# Altium footprint library TH resistors.PcbLib: 92 footprints (part 2 of 6)
Each footprint in its own frame and in the unit in brackets; x right, y up, seen from the top. Pads: shape width x height; smd on the part's side, far side on the other; paste and mask are expansions set on the pad; w line width, h text height; cw(c..) or ccw(c..) is an arc to the next point about the centre after c.
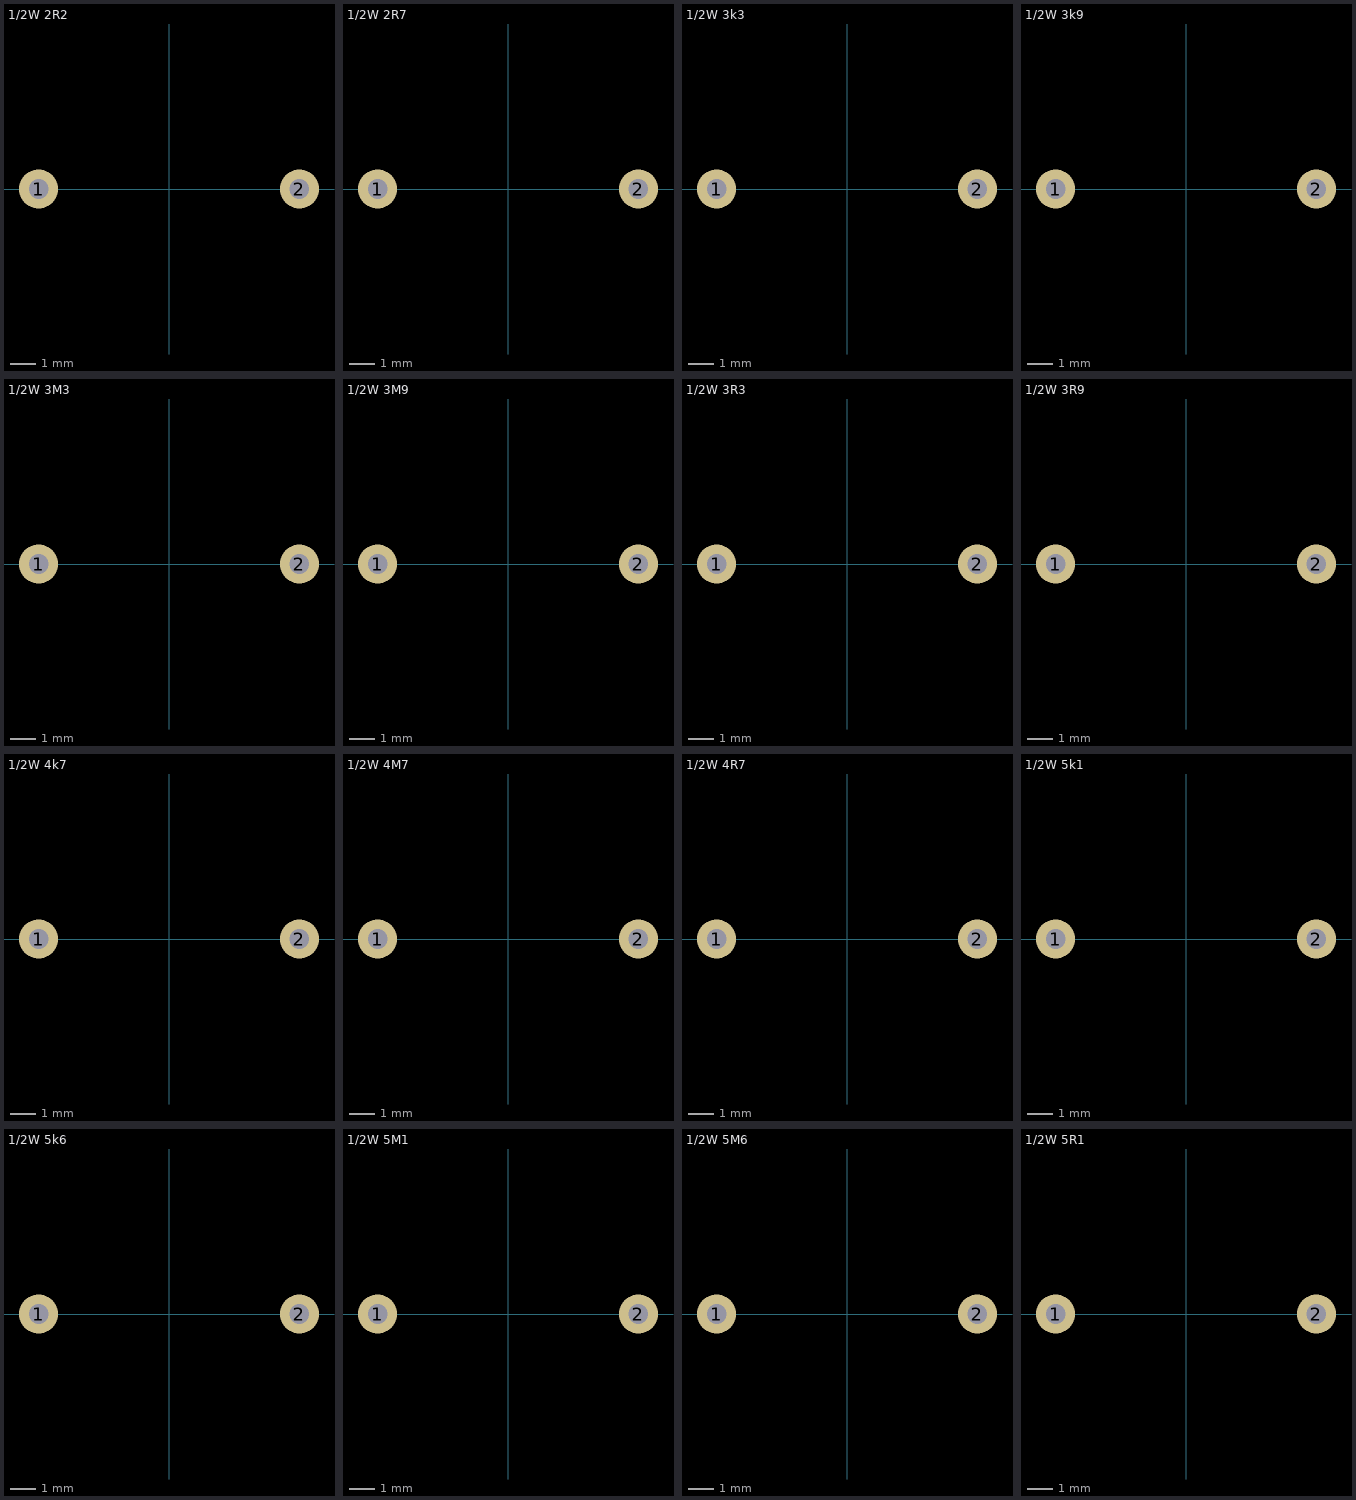
[diagram p1: the footprints below, top view; thin cyan lines are the x and y axes]

## 1/2W 2R2 [mil]
pads (2):
  round 60 hole 30: 1(-200,0) 2(200,0)
3D body "Resistor Axial 0.5W - Pitch 10.2mm (401.57mil) - 2R2.STEP": height 59.06, standoff -206.69, extent -210.63,-59.06 210.63,59.06

## 1/2W 2R7 [mil]
pads (2):
  round 60 hole 30: 1(-200,0) 2(200,0)
3D body "Resistor Axial 0.5W - Pitch 10.2mm (401.57mil) - 2R7.STEP": height 59.06, standoff -206.69, extent -210.63,-59.06 210.63,59.06

## 1/2W 3k3 [mil]
pads (2):
  round 60 hole 30: 1(-200,0) 2(200,0)
3D body "Resistor Axial 0.5W - Pitch 10.2mm (401.57mil) - 3K3.STEP": height 59.06, standoff -206.69, extent -210.63,-59.06 210.63,59.06

## 1/2W 3k9 [mil]
pads (2):
  round 60 hole 30: 1(-200,0) 2(200,0)
3D body "Resistor Axial 0.5W - Pitch 10.2mm (401.57mil) - 3K9.STEP": height 59.06, standoff -206.69, extent -210.63,-59.06 210.63,59.06

## 1/2W 3M3 [mil]
pads (2):
  round 60 hole 30: 1(-200,0) 2(200,0)
3D body "Resistor Axial 0.5W - Pitch 10.2mm (401.57mil) - 3M3.STEP": height 59.06, standoff -206.69, extent -210.63,-59.06 210.63,59.06

## 1/2W 3M9 [mil]
pads (2):
  round 60 hole 30: 1(-200,0) 2(200,0)
3D body "Resistor Axial 0.5W - Pitch 10.2mm (401.57mil) - 3M9.STEP": height 59.06, standoff -206.69, extent -210.63,-59.06 210.63,59.06

## 1/2W 3R3 [mil]
pads (2):
  round 60 hole 30: 1(-200,0) 2(200,0)
3D body "Resistor Axial 0.5W - Pitch 10.2mm (401.57mil) - 3R3.STEP": height 59.06, standoff -206.69, extent -210.63,-59.06 210.63,59.06

## 1/2W 3R9 [mil]
pads (2):
  round 60 hole 30: 1(-200,0) 2(200,0)
3D body "Resistor Axial 0.5W - Pitch 10.2mm (401.57mil) - 3R9.STEP": height 59.06, standoff -206.69, extent -210.63,-59.06 210.63,59.06

## 1/2W 4k7 [mil]
pads (2):
  round 60 hole 30: 1(-200,0) 2(200,0)
3D body "Resistor Axial 0.5W - Pitch 10.2mm (401.57mil) - 4K7.STEP": height 59.06, standoff -206.69, extent -210.63,-59.06 210.63,59.06

## 1/2W 4M7 [mil]
pads (2):
  round 60 hole 30: 1(-200,0) 2(200,0)
3D body "Resistor Axial 0.5W - Pitch 10.2mm (401.57mil) - 4M7.STEP": height 59.06, standoff -206.69, extent -210.63,-59.06 210.63,59.06

## 1/2W 4R7 [mil]
pads (2):
  round 60 hole 30: 1(-200,0) 2(200,0)
3D body "Resistor Axial 0.5W - Pitch 10.2mm (401.57mil) - 4R7.STEP": height 59.06, standoff -206.69, extent -210.63,-59.06 210.63,59.06

## 1/2W 5k1 [mil]
pads (2):
  round 60 hole 30: 1(-200,0) 2(200,0)
3D body "Resistor Axial 0.5W - Pitch 10.2mm (401.57mil) - 5K1.STEP": height 59.06, standoff -206.69, extent -210.63,-59.06 210.63,59.06

## 1/2W 5k6 [mil]
pads (2):
  round 60 hole 30: 1(-200,0) 2(200,0)
3D body "Resistor Axial 0.5W - Pitch 10.2mm (401.57mil) - 5K6.STEP": height 59.06, standoff -206.69, extent -210.63,-59.06 210.63,59.06

## 1/2W 5M1 [mil]
pads (2):
  round 60 hole 30: 1(-200,0) 2(200,0)
3D body "Resistor Axial 0.5W - Pitch 10.2mm (401.57mil) - 5M1.STEP": height 59.06, standoff -206.69, extent -210.63,-59.06 210.63,59.06

## 1/2W 5M6 [mil]
pads (2):
  round 60 hole 30: 1(-200,0) 2(200,0)
3D body "Resistor Axial 0.5W - Pitch 10.2mm (401.57mil) - 5M6.STEP": height 59.06, standoff -206.69, extent -210.63,-59.06 210.63,59.06

## 1/2W 5R1 [mil]
pads (2):
  round 60 hole 30: 1(-200,0) 2(200,0)
3D body "Resistor Axial 0.5W - Pitch 10.2mm (401.57mil) - 5R1.STEP": height 59.06, standoff -206.69, extent -210.63,-59.06 210.63,59.06